# Altium footprint library SPACER(M2, 8MM, 14MM).PcbLib: 1 footprints
Each footprint in its own frame and in the unit in brackets; x right, y up, seen from the top. Pads: shape width x height; smd on the part's side, far side on the other; paste and mask are expansions set on the pad; w line width, h text height; cw(c..) or ccw(c..) is an arc to the next point about the centre after c.
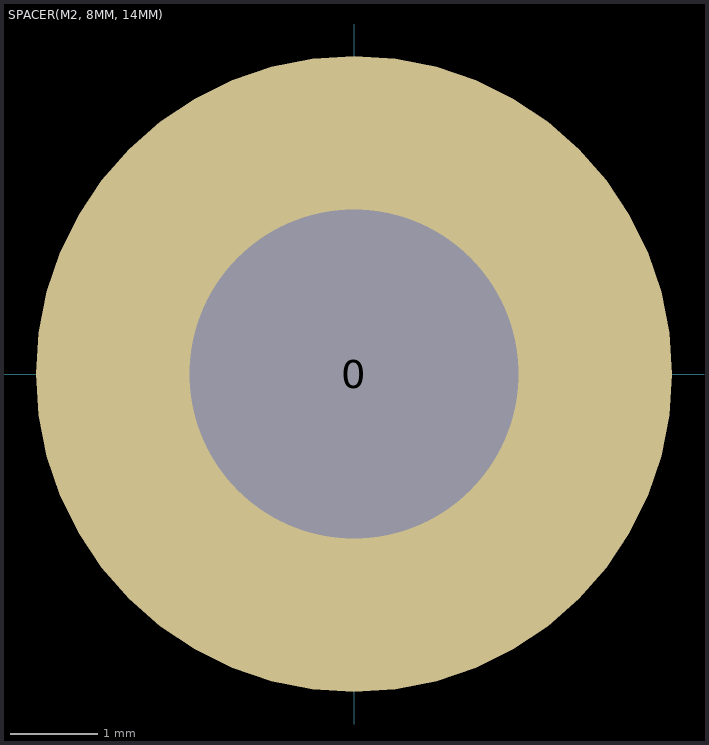
[diagram p0: the footprint, top view; thin cyan lines are the x and y axes]

## SPACER(M2, 8MM, 14MM) [mm]
pads (1):
  round 7.25 hole 3.75: 0(0,0)
3D body "Download_STEP_971080244 (rev1).stp": height 5.49, standoff -8.51, extent -2.309,-2 2.309,2